# EAGLE library part ADXL345_BREAKOUT (library Breakouts)
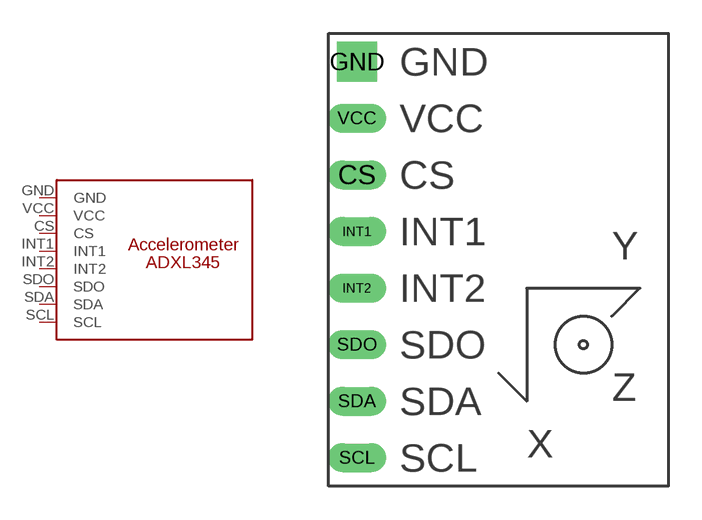
[diagram p0: symbol with the pads of ADXL345_BREAKOUT; footprint ADXL345_BREAKOUT]

Designator prefix -

## ADXL345_BREAKOUT  [ADXL345_BREAKOUT]
CS  CS
GND  GND
INT1  INT1
INT2  INT2
SCL  SCL
SDA  SDA
SDO  SDO
VCC  VCC

## Footprint ADXL345_BREAKOUT (pad centres in mm)
drill 0.8 long: CS 1.27,13.97; INT1 1.27,11.43; INT2 1.27,8.89; SCL 1.27,1.27; SDA 1.27,3.81; SDO 1.27,6.35; VCC 1.27,16.51
drill 0.8 pad 1.778 square: GND 1.27,19.05